# Altium footprint library 控制盒基板1.PcbLib: 43 footprints (part 3 of 3)
Each footprint in its own frame and in the unit in brackets; x right, y up, seen from the top. Pads: shape width x height; smd on the part's side, far side on the other; paste and mask are expansions set on the pad; w line width, h text height; cw(c..) or ccw(c..) is an arc to the next point about the centre after c.
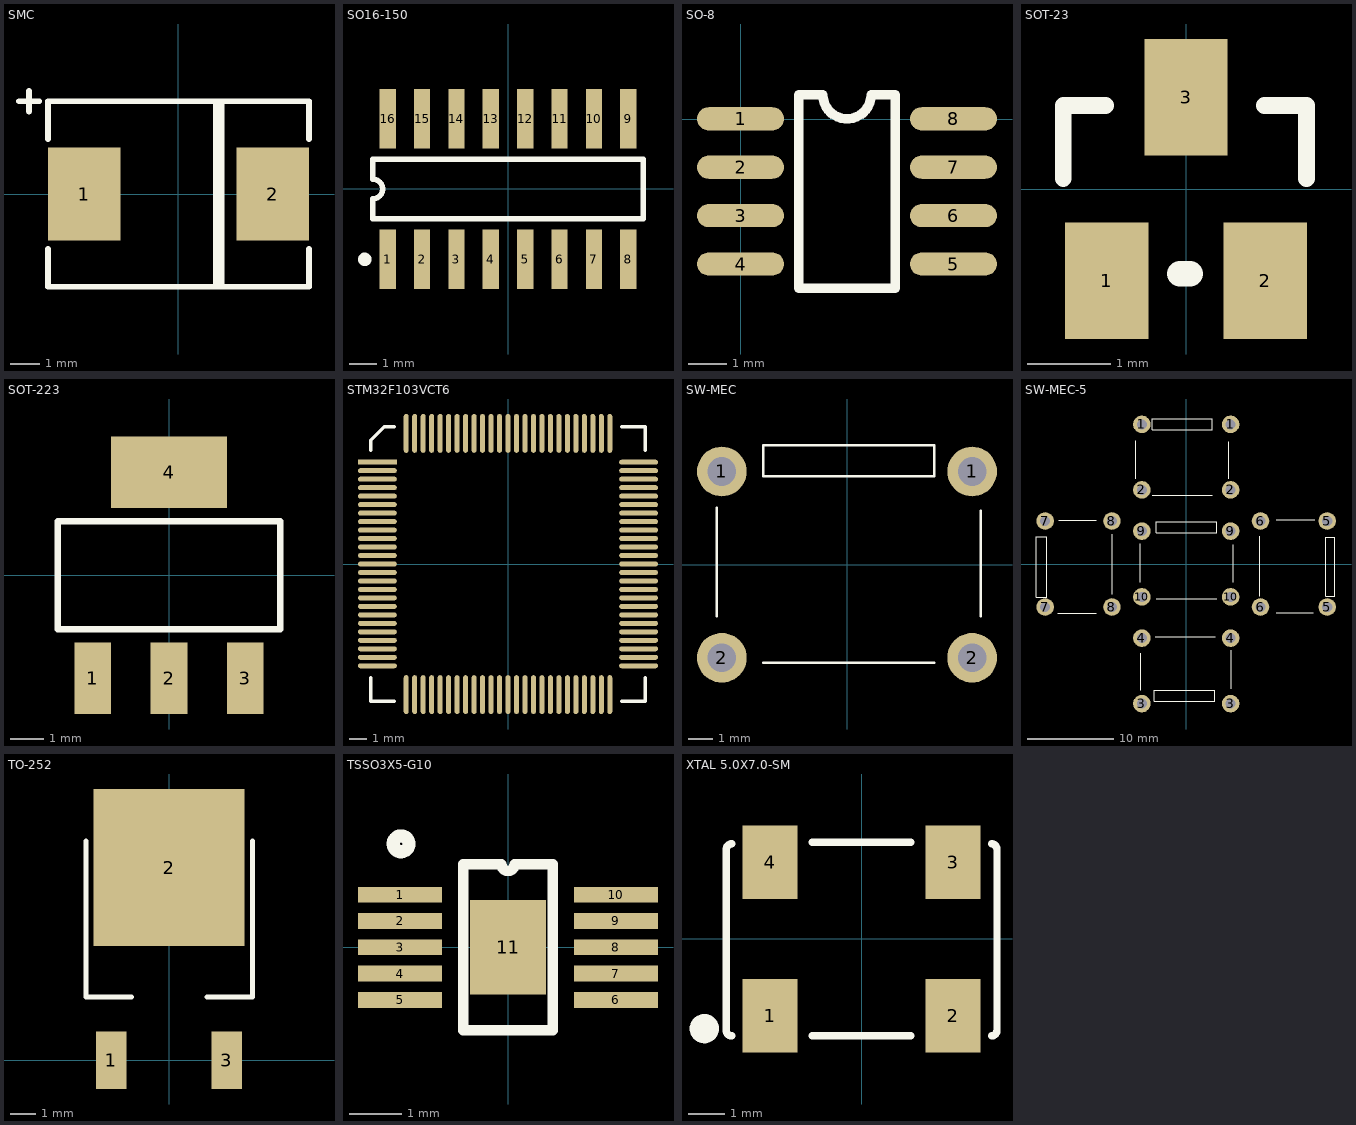
[diagram p2: the footprints below, top view; thin cyan lines are the x and y axes]

## SMC [mm]
pads (2):
  rect 2.5x3.2 smd: 1(-3.25,0) 2(3.25,0)
Top Overlay:
  rectangle: 1.19,-3.204 1.596,3.196
  lines w0.203: -5.5,3.2 -5.15,3.2 ; -5.15,2.85 -5.15,3.2 ; -5.15,3.55 -5.15,3.2 ; -4.8,3.2 -5.15,3.2 ; -4.5,-1.9 -4.5,-3.2 4.5,-3.2 4.5,-1.9 ; -4.5,1.9 -4.5,3.2 4.5,3.2 4.5,1.9
3D body: height 2.8, standoff 0, extent -3.799,-3.1 3.799,3.12

## SO16-150 [mm]
pads (16):
  rect 0.6x2.2 smd: 1(-4.445,-2.6) 2(-3.175,-2.6) 3(-1.905,-2.6) 4(-0.635,-2.6) 5(0.635,-2.6) 6(1.905,-2.6) 7(3.175,-2.6) 8(4.445,-2.6) 9(4.445,2.6) 10(3.175,2.6) 11(1.905,2.6) 12(0.635,2.6) 13(-0.635,2.6) 14(-1.905,2.6) 15(-3.175,2.6) 16(-4.445,2.6)
Top Overlay:
  circle w0.25: c-5.295,-2.6 r0.125
  lines w0.2: -5,-1.1 -5,-0.367 ccw(c-5,0) -5,0.367 -5,1.1 5,1.1 5,-1.1 -5,-1.1
3D body: height 1.35, standoff -0.1, extent -4.953,-2.921 5.022,3.023

## SO-8 [mil]
pads (8):
  oval 90x24 smd: 1(0.04,0.29) 2(0.04,-49.71) 3(0.04,-99.71) 4(0.04,-149.71) 5(220.04,-149.71) 6(220.04,-99.71) 7(220.04,-49.71) 8(220.04,0.29)
Top Overlay:
  lines w10: 60.04,-174.71 160.04,-174.71 160.04,25.29 135.04,25.29 cw(c110.04,25.29) 85.04,25.29 60.04,25.29 60.04,-174.71

## SOT-23 [mm]
pads (3):
  rect 1x1.4 smd: 1(-0.95,-1.1) 2(0.95,-1.1) 3(0,1.1)
Top Overlay:
  lines w0.203: -1.473,0.127 -1.473,1 -0.965,1 ; 0.94,1 1.448,1 1.448,0.127
  lines w0.305: -0.076,-1.016 0.051,-1.016
3D body: height 1.09, standoff 0, extent -1.41,-1.003 1.384,1.422

## SOT-223 [mm]
pads (4):
  rect 1.1x2.15 smd: 1(-2.3,-3.1) 2(0,-3.1) 3(2.3,-3.1)
  rect 3.5x2.15 smd: 4(0,3.1)
Top Overlay:
  lines w0.2: -3.35,-1.625 3.35,-1.625 3.35,1.625 -3.35,1.625 -3.35,-1.625
3D body: height 1.8, standoff 0, extent -3.15,-3.3 3.15,3.3

## STM32F103VCT6 [mil]
pads (100):
  rect 90x11.5 smd: 1(-303.15,236.22)
  oval 90x11.5 smd: 2(-303.15,216.53) 3(-303.15,196.85) 4(-303.15,177.16) 5(-303.15,157.48) 6(-303.15,137.79) 7(-303.15,118.11) 8(-303.15,98.42) 9(-303.15,78.74) 10(-303.15,59.05) 11(-303.15,39.37) 12(-303.15,19.68) 13(-303.15,0) 14(-303.15,-19.68) 15(-303.15,-39.37) 16(-303.15,-59.05) 17(-303.15,-78.74) 18(-303.15,-98.42) 19(-303.15,-118.11) 20(-303.15,-137.79) 21(-303.15,-157.48) 22(-303.15,-177.16) 23(-303.15,-196.85) 24(-303.15,-216.53) 25(-303.15,-236.22) 51(303.15,-236.22) 52(303.15,-216.53) 53(303.15,-196.85) 54(303.15,-177.16) 55(303.15,-157.48) 56(303.15,-137.79) 57(303.15,-118.11) 58(303.15,-98.42) 59(303.15,-78.74) 60(303.15,-59.05) 61(303.15,-39.37) 62(303.15,-19.68) 63(303.15,0) 64(303.15,19.68) 65(303.15,39.37) 66(303.15,59.05) 67(303.15,78.74) 68(303.15,98.42) 69(303.15,118.11) 70(303.15,137.79) 71(303.15,157.48) 72(303.15,177.16) 73(303.15,196.85) 74(303.15,216.53) 75(303.15,236.22)
  oval 11.5x90 smd: 26(-236.22,-303.15) 27(-216.54,-303.15) 28(-196.85,-303.15) 29(-177.17,-303.15) 30(-157.48,-303.15) 31(-137.8,-303.15) 32(-118.11,-303.15) 33(-98.43,-303.15) 34(-78.74,-303.15) 35(-59.06,-303.15) 36(-39.37,-303.15) 37(-19.69,-303.15) 38(0,-303.15) 39(19.68,-303.15) 40(39.37,-303.15) 41(59.05,-303.15) 42(78.74,-303.15) 43(98.42,-303.15) 44(118.11,-303.15) 45(137.79,-303.15) 46(157.48,-303.15) 47(177.16,-303.15) 48(196.85,-303.15) 49(216.53,-303.15) 50(236.22,-303.15) 76(236.22,303.15) 77(216.53,303.15) 78(196.85,303.15) 79(177.16,303.15) 80(157.48,303.15) 81(137.79,303.15) 82(118.11,303.15) 83(98.42,303.15) 84(78.74,303.15) 85(59.05,303.15) 86(39.37,303.15) 87(19.68,303.15) 88(0,303.15) 89(-19.69,303.15) 90(-39.37,303.15) 91(-59.06,303.15) 92(-78.74,303.15) 93(-98.43,303.15) 94(-118.11,303.15) 95(-137.8,303.15) 96(-157.48,303.15) 97(-177.17,303.15) 98(-196.85,303.15) 99(-216.54,303.15) 100(-236.22,303.15)
Top Overlay:
  lines w7.87: -318.9,-263.78 -318.9,-318.9 -263.78,-318.9 ; -318.9,263.78 -318.9,287.4 -287.4,318.9 -263.78,318.9 ; 263.78,-318.9 318.9,-318.9 318.9,-263.78 ; 263.78,318.9 318.9,318.9 318.9,263.78

## SW-MEC [mil]
pads (4):
  round 80 hole 46: 1(-201.57,150) 1(201.57,150) 2(-201.57,-150) 2(201.57,-150)
Top Overlay:
  lines w3.94: -209.76,-82.95 -209.76,92.05 ; -134.76,-157.95 140.24,-157.95 ; 215.24,-82.95 215.24,87.05 ; -134.76,142.05 140.24,142.05 140.24,192.05 -134.76,192.05 -134.76,142.05
3D body: height 395.28, standoff -154.53, extent -202.36,-200 211.02,193.7

## SW-MEC-5 [mil]
pads (20):
  round 80 hole 46: 1(-202.95,638.19) 1(202.95,638.19) 2(-202.95,338.98) 2(202.95,338.98) 3(-202.95,-638.19) 3(202.95,-638.19) 4(-202.95,-338.98) 4(202.95,-338.98) 5(644.29,-196.46) 5(644.29,196.46) 6(339.37,-196.46) 6(339.37,196.46) 7(-644.29,-196.46) 7(-644.29,196.46) 8(-339.37,-196.46) 8(-339.37,196.46) 9(-202.95,150) 9(202.95,150) 10(-202.95,-150) 10(202.95,-150)
Top Overlay:
  lines w3.94: -586.34,-225.91 -411.34,-225.91 ; -581.34,199.09 -411.34,199.09 ; -337.4,-138.78 -337.4,136.22 ; -231.22,388.7 -231.22,563.7 ; -211.14,-82.95 -211.14,92.05 ; -207.87,-577.56 -207.87,-407.56 ; -156.22,313.7 118.78,313.7 ; -141.34,-331.5 133.66,-331.5 ; -136.14,-157.95 138.86,-157.95 ; 193.78,388.7 193.78,558.7 ; 205.12,-568.9 205.12,-393.9 ; 213.86,-82.95 213.86,87.05 ; 336.34,-148.11 336.34,126.89 ; 411.34,-223.11 581.34,-223.11 ; 411.34,201.89 586.34,201.89 ; -686.34,-150.91 -686.34,124.09 -636.34,124.09 -636.34,-150.91 -686.34,-150.91 ; -156.22,613.7 -156.22,663.7 118.78,663.7 118.78,613.7 -156.22,613.7 ; -145.55,-627.48 129.45,-627.48 129.45,-577.48 -145.55,-577.48 -145.55,-627.48 ; -136.14,142.05 -136.14,192.05 138.86,192.05 138.86,142.05 -136.14,142.05 ; 636.34,-148.11 636.34,123.23 679.53,123.23 679.53,-148.11 636.34,-148.11
3D body: height 457.05, standoff -154.53, extent -689.76,-688.19 686.61,688.19

## TO-252 [mm] "DPAK"
pads (3):
  rect 1.2x2.28 smd: 1(-2.29,0) 3(2.29,0)
  rect 6x6.23 smd: 2(0,7.64)
Top Overlay:
  lines w0.2: -3.29,8.7 -3.29,2.51 -1.49,2.51 ; 1.51,2.51 3.31,2.51 3.31,8.7
3D body: height 2.3, standoff -0.1, extent -3.35,-0.29 3.35,9.719

## TSSO3X5-G10 [mm]
height 1.6
pads (11):
  rect 1.6x0.3 smd: 1(-2.05,1) 2(-2.05,0.5) 3(-2.05,0) 4(-2.05,-0.5) 5(-2.05,-1) 6(2.05,-1) 7(2.05,-0.5) 8(2.05,0) 9(2.05,0.5) 10(2.05,1)
  rect 1.45x1.8 smd: 11(0,0)
Top Overlay:
  circle w0.25: c-2.032,1.966 r0.15
  lines w0.2: -0.85,-1.575 -0.85,1.575 -0.125,1.575 ccw(c0,1.575) 0.125,1.575 0.85,1.575 0.85,-1.575 -0.85,-1.575

## XTAL 5.0X7.0-SM [mm]
pads (4):
  rect 1.5x2 smd: 1(-2.5,-2.1) 2(2.5,-2.1) 3(2.5,2.1) 4(-2.5,2.1)
Top Overlay:
  circle w0.4: c-4.3,-2.45 r0.2
  lines w0.203: -3.55,-2.65 cw(c-3.55,-2.5) -3.7,-2.5 -3.7,-0.05 -3.7,2.45 cw(c-3.55,2.45) -3.55,2.6 ; -1.35,-2.65 1.35,-2.65 ; -1.35,2.65 1.35,2.65 ; 3.55,-2.65 ccw(c3.55,-2.5) 3.7,-2.5 3.7,0 3.7,2.45 ccw(c3.55,2.45) 3.55,2.6
3D body: height 1.5, standoff 0, extent -3.55,-2.55 3.45,2.45